# Altium schematic symbol library MICS6814.SchLib: 8 symbols
Pins are listed as number, name and electrical type; pins without a type are passive.

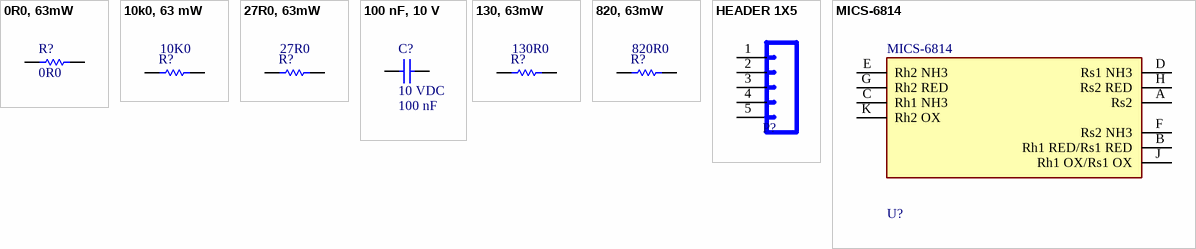
[diagram p0: symbols 0R0, 63mW to MICS-6814]

## 0R0, 63mW
designator R?, comment Resistance: 0R0  (hidden comment: ERJ-2GE0R00X)
Resistor; Manufacturer: PANASONIC ELECTRONIC COMPONENTS; Product Range: ERJ2; Voltage Rating: 50; Resistor Case Style: 0402 [1005 Metric]; Power Rating: 100; Resistor Element Type: Thick Film; Supplier 1: Newark; Manufacturer Part Number: ERJ-2GE0R00X; RoHS: YES; Stock 1: 130000; Pricing 1: 1=0.006, 10000=0.006 (USD); Resistance Tolerance: -; ComponentLink1URL: http://www.farnell.com/datasheets/2059623.pdf; ComponentLink1Description: http://www.farnell.com/datasheets/2059623.pdf; Supplier Part Number 1: 97W7189
footprint 0402_RES
pins: 1, 2

## 10k0, 63 mW
designator R?, comment value 10K0  (hidden comment: CRCW040210K0FKTD)
Resistor; Manufacturer 1: VISHAY DALE; Supplier 1: Newark; Manufacturer Part Number: CRCW040210K0FKTD; RoHS: NO; Stock 1: 12163; Pricing 1: 1=0.073, 10=0.039, 100=0.023, 1000=0.019 (USD); ComponentLink1URL: http://www.farnell.com/datasheets/1914725.pdf; ComponentLink1Description: http://www.farnell.com/datasheets/1914725.pdf; Supplier Part Number 1: 96C9543
footprint 0402_RES
pins: 1, 2

## 27R0, 63mW
designator R?, comment Resistance: 27R0  (hidden comment: RCS040227R0FKED)
Resistor; Manufacturer: Vishay / Dale; Description: Thick Film Resistors - SMD 0.2watt 27ohms 1% 100ppm; Power Rating: 200 mW (1/5 W); Temperature Coefficient: 100 PPM / C; Tolerance: 1 %; Voltage Rating: 50 V; Qualification: AEC-Q200; Product Status: New Product; Supplier 1: Mouser; Manufacturer Part Number: RCS040227R0FKED; RoHS: RoHS Compliant By Exemption; Category: Thick Film Resistors - SMD; Stock 1: 19066; Pricing 1: 1=0.156, 10=0.134, 100=0.051, 1000=0.022, 2500=0.016, 10000=0.014, 20000=0.012 (MXN); Application: High Power; Features: Anti-Surge Resistors; Height: 0.35 mm; Length: 1 mm; Packaging: Cut Tape; Product: Thick Film Resistors SMD; Series: RCS e3; Technology: Thick Film; Termination Style: SMD/SMT; Width: 0.5 mm; Brand: Vishay / Dale; Mounting Style: PCB Mount; Case Code - in: 0402; Case Code - mm: 1005; Maximum Operating Temperature: + 155 C; Minimum Operating Temperature: - 55 C; Product Type: Thick Film Resistors; Standard Pack Qty: 10000; Subcategory: Resistors; RoHS - Mouser: E; Minimum Order Quantity: 1; Reeling: True; ComponentLink1URL: https://www.mouser.com/datasheet/2/427/rcse3-1761771.pdf; ComponentLink1Description: https://www.mouser.com/datasheet/2/427/rcse3-1761771.pdf; Supplier Part Number 1: 71-RCS040227R0FKED
footprint 0402_RES
pins: 1, 2

## 100 nF, 10 V
designator C?, comment Voltage Rating DC: 10 VDC  Capacitance - nF: 100 nF  (hidden comment: GRM155R71A104KA01D)
Cap_Cer; Manufacturer: Murata Electronics; Capacitance: 0.1 uF; Tolerance: 10 %; Type: General Purpose MLCC; Capacitance - pF: 100000 pF; Dielectric: X7R; Qualification: Commercial; Supplier 1: Mouser; Manufacturer Part Number: GRM155R71A104KA01D; RoHS: RoHS Compliant; Category: Multilayer Ceramic Capacitors MLCC - SMD/SMT; Stock 1: 259611; Pricing 1: 1=0.100, 10=0.006, 100=0.004, 500=0.003, 10000=0.003 (USD); Height: 0.5 mm; Length: 1 mm; Package / Case: 0402 (1005 metric); Packaging: Reel; Product: General Type MLCCs; Series: GRM; Termination Style: SMD/SMT; Width: 0.5 mm; Brand: Murata Electronics; Case Code - in: 0402; Case Code - mm: 1005; Maximum Operating Temperature: + 125 C; Minimum Operating Temperature: - 55 C; Standard Pack Qty: 10000; RoHS - Mouser: Y; Minimum Order Quantity: 1; Reeling: True; ComponentLink1URL: http://www.mouser.com/ds/2/281/c02e-2905.pdf; ComponentLink1Description: http://www.mouser.com/ds/2/281/c02e-2905.pdf; Supplier Part Number 1: 81-GRM155R71A104KA1D
footprint C0402
pins: 1, 2

## 130, 63mW
designator R?, comment Resistance: 130R0  (hidden comment: CRCW0402130RFKEDC)
Resistor; Manufacturer: Vishay / Dale; Description: Thick Film Resistors - SMD 1/16watt 130ohms 1% Commercial Use; Power Rating: 62.5 mW (1/16 W); Temperature Coefficient: 100 PPM / C; Tolerance: 1 %; Voltage Rating: 50 V; Supplier 1: Mouser; Manufacturer Part Number: CRCW0402130RFKEDC; RoHS: RoHS Compliant By Exemption; Category: Thick Film Resistors - SMD; Stock 1: 23812; Pricing 1: 1=0.130, 10=0.042, 100=0.017, 1000=0.007, 2500=0.004, 10000=0.004 (MXN); Features: -; Height: 0.35 mm; Length: 1 mm; Package / Case: -; Packaging: Cut Tape; Product: Thick Film Resistors SMD; Series: CRCW-C e3; Technology: Thick Film; Termination Style: SMD/SMT; Width: 0.5 mm; Brand: Vishay / Dale; Mounting Style: PCB Mount; Case Code - in: 0402; Case Code - mm: 1005; Maximum Operating Temperature: + 155 C; Minimum Operating Temperature: - 55 C; Product Type: Thick Film Resistors; Standard Pack Qty: 10000; Subcategory: Resistors; RoHS - Mouser: E; Minimum Order Quantity: 1; Reeling: True; ComponentLink1URL: https://www.mouser.com/datasheet/2/427/crcwce3-1762584.pdf; ComponentLink1Description: https://www.mouser.com/datasheet/2/427/crcwce3-1762584.pdf; Supplier Part Number 1: 71-CRCW0402130RFKEDC
footprint 0402_RES
pins: 1, 2

## 820, 63mW
designator R?, comment Resistance: 820R0  (hidden comment: RCS0402820RFKED)
Resistor; Manufacturer: Vishay / Dale; Description: Thick Film Resistors - SMD 0.2watt 820ohms 1% 100ppm; Power Rating: 200 mW (1/5 W); Temperature Coefficient: 100 PPM / C; Tolerance: 1 %; Voltage Rating: 50 V; Qualification: AEC-Q200; Product Status: New Product; Supplier 1: Mouser; Manufacturer Part Number: RCS0402820RFKED; RoHS: RoHS Compliant By Exemption; Category: Thick Film Resistors - SMD; Stock 1: 17954; Pricing 1: 1=0.156, 10=0.134, 100=0.051, 1000=0.022, 2500=0.016, 10000=0.014, 20000=0.012 (MXN); Application: High Power; Features: Anti-Surge Resistors; Height: 0.35 mm; Length: 1 mm; Packaging: Cut Tape; Product: Thick Film Resistors SMD; Series: RCS e3; Technology: Thick Film; Termination Style: SMD/SMT; Width: 0.5 mm; Brand: Vishay / Dale; Mounting Style: PCB Mount; Case Code - in: 0402; Case Code - mm: 1005; Maximum Operating Temperature: + 155 C; Minimum Operating Temperature: - 55 C; Product Type: Thick Film Resistors; Standard Pack Qty: 10000; Subcategory: Resistors; RoHS - Mouser: E; Minimum Order Quantity: 1; Reeling: True; ComponentLink1URL: https://www.mouser.com/datasheet/2/427/rcse3-1761771.pdf; ComponentLink1Description: https://www.mouser.com/datasheet/2/427/rcse3-1761771.pdf; Supplier Part Number 1: 71-RCS0402820RFKED
footprint 0402_RES
pins: 1, 2

## HEADER 1X5
designator P?, comment 68000-236HLF  (value not drawn)
HEADER 1X2; Manufacturer: Amphenol FCI; Current Rating: 3 A; Mounting Angle: Straight; Number of Positions: 36 Position; Voltage Rating: 1.5 kV; Pitch: 2.54 mm; Insulation Resistance: 5 GOhms; Mating Post Length: 5.84 mm; Supplier 1: Mouser; Manufacturer Part Number: 68000-236HLF; RoHS: RoHS Compliant; Category: Headers & Wire Housings; Stock 1: 1164; Pricing 1: 1=1.89, 10=1.65, 100=1.47, 200=1.42, 500=1.23, 1000=1.00 (MXN); Contact Plating: Gold; Housing Material: Thermoplastic (TP); Number of Rows: 1 Row; Packaging: Bulk; Product: Headers; Termination Style: Solder Pin; Type: Pin Strip; Brand: Amphenol FCI; Contact Material: Phosphor Bronze; Flammability Rating: UL 94 V-0; Mounting Style: -; Contact Gender: Pin (Male); Housing Color: Black; Housing Gender: -; Maximum Operating Temperature: + 125 C; Minimum Operating Temperature: - 65 C; Product Type: Headers & Wire Housings; Standard Pack Qty: 100; Subcategory: Headers & Wire Housings; Termination Post Length: 2.41 mm; Tradename: BergStik; RoHS - Mouser: Y; Minimum Order Quantity: 1; Reeling: False; ComponentLink1URL: https://www.mouser.com/datasheet/2/18/68000-1266375.pdf; ComponentLink1Description: https://www.mouser.com/datasheet/2/18/68000-1266375.pdf; Supplier Part Number 1: 649-68000-236HLF
footprint HEAD5-NOSS (HEAD15-NOSS)
pins: 1, 2, 3, 4, 5

## MICS-6814
designator U?
sensor for the  detection of pollution; Manufacturer: Amphenol SGX Sensortech; Description: Air Quality Sensors MOS Triple Sensor; Current Rating: 32 mA; Sensor Type: Carbon Monoxide (CO); Supply Voltage - Max: 5.1 V; Supply Voltage - Min: 4.9 V; Supplier 1: Mouser; Category: Air Quality Sensors; Stock 1: 579; Pricing 1: 1=24.69, 5=22.63, 10=20.59, 25=19.03, 50=18.53, 100=17.90, 200=17.39, 500=16.86 (MXN); Packaging: Cut Tape; Series: MICS; Type: Gas Sensor; Brand: Amphenol SGX Sensortech; Mounting Style: SMD/SMT; Maximum Operating Temperature: + 85 C; Minimum Operating Temperature: - 30 C; Product Type: Air Quality Sensors; Subcategory: Sensors; Minimum Order Quantity: 1; Reeling: True; ComponentLink1URL: https://www.mouser.com/datasheet/2/18/1143_Datasheet-MiCS-6814-rev-8-1144828.pdf; ComponentLink1Description: https://www.mouser.com/datasheet/2/18/1143_Datasheet-MiCS-6814-rev-8-1144828.pdf; Supplier Part Number 1: 523-MICS-6814; Standard Pack Qty: 100; Manufacturer Part Number: MICS-6814
footprint SGX_Sensortech_MiCS-6814_0
pins: A Rs2, B Rh1 RED/Rs1 RED, C Rh1 NH3, D Rs1 NH3, E Rh2 NH3, F Rs2 NH3, G Rh2 RED, H Rs2 RED, J Rh1 OX/Rs1 OX, K Rh2 OX